# Altium schematic symbol library Inductors.SchLib: 11 symbols
Pins are listed as number, name and electrical type; pins without a type are passive.

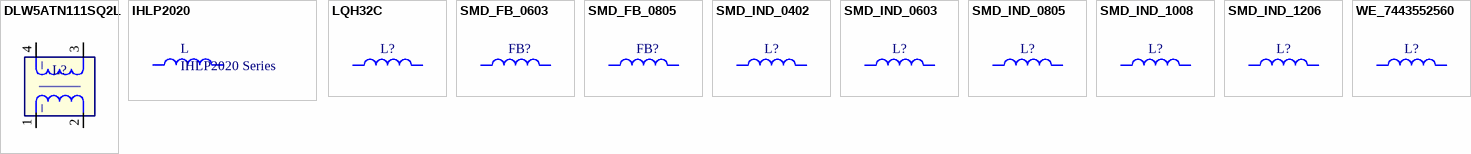
[diagram p0: symbols DLW5ATN111SQ2L to WE_7443552560]

## DLW5ATN111SQ2L
designator L?  (value not drawn)
SMD Common mode choke coil for power lines; Rated Current: 5Amp; Rated Voltage: 50V; Impedance: 12Ohm (10MHz); DC Resistance: 0.02Ohm; Part Number: DLW5ATN111SQ2L
footprint DLW5ATN111SQ2# (Murata EMI SMD Inductor)
pins: 1, 2, 3, 4

## IHLP2020
designator L, comment IHLP2020 Series
DC Resistance: *; Part Number: *; Rated Current: *; Self resonant frequency: *; Tolerance: *; Value: *
footprint IHLP2020
pins: 1, 2

## LQH32C
designator L?  (value not drawn)
SMD Inductor; Part Number: Inductor LQH32C 1210; Tolerance: *; Rated Current: *; Value: *; Impedance at 100MHz: *; DC Resistance: *
pins: 1, 2

## SMD_FB_0603
designator FB?, comment FB_0603  (value not drawn)
SMD Ferrite bead; Part Number: Ferrite Bead SMD 0603; Tolerance: *; Rated Current: *; Value: *; Impedance at 100MHz: *; DC Resistance: *
footprint L0603 (1608M)
pins: 1, 2

## SMD_FB_0805
designator FB?, comment FB_0805  (value not drawn)
SMD Ferrite bead; Part Number: Ferrite Bead SMD 0805; Tolerance: *; Rated Current: *; Value: *; Impedance at 100MHz: *; DC Resistance: *
footprint L0805
pins: 1, 2

## SMD_IND_0402
designator L?, comment Ind_0402  (value not drawn)
SMD Inductor; Part Number: Inductor SMD 0402; Tolerance: *; Rated Current: *; Value: *; Impedance at 100MHz: *; DC Resistance: *
footprint L0402 (1005M)
pins: 1, 2

## SMD_IND_0603
designator L?, comment Ind_0603  (value not drawn)
SMD Inductor; Part Number: Inductor SMD 0603; Tolerance: *; Rated Current: *; Value: *; Impedance at 100MHz: *; DC Resistance: *
footprint L0603 (1608M)
pins: 1, 2

## SMD_IND_0805
designator L?, comment Ind_0805  (value not drawn)
SMD Inductor; Part Number: Inductor SMD 0805; Tolerance: *; Rated Current: *; Value: *; Impedance at 100MHz: *; DC Resistance: *
footprint L0805
pins: 1, 2

## SMD_IND_1008
designator L?, comment Ind_1008  (value not drawn)
SMD Inductor; Part Number: Inductor SMD 1008; Tolerance: *; Rated Current: *; Value: *; Impedance at 100MHz: *; DC Resistance: *
footprint L1008
pins: 1, 2

## SMD_IND_1206
designator L?, comment Ind_1206  (value not drawn)
SMD Inductor; Part Number: Inductor SMD 1206; Tolerance: *; Rated Current: *; Value: *; Impedance at 100MHz: *; DC Resistance: *
footprint L1206
pins: 1, 2

## WE_7443552560
designator L?  (value not drawn)
SMD Inductor; Tolerance: 20%; Rated Current: 6.7Amp; Value: 5.6u; Self resonant frequency: 30MHz; DC Resistance: 20.6Ohm; Part Number: 7443552560
footprint WE-1040 (Wurth Electronil HCI SMD Inductor)
pins: 1, 2